# Altium footprint library IC_Broadcom_ACPL-C87A-000E_eec_IPC_B.PcbLib: 1 footprints
Each footprint in its own frame and in the unit in brackets; x right, y up, seen from the top. Pads: shape width x height; smd on the part's side, far side on the other; paste and mask are expansions set on the pad; w line width, h text height; cw(c..) or ccw(c..) is an arc to the next point about the centre after c.
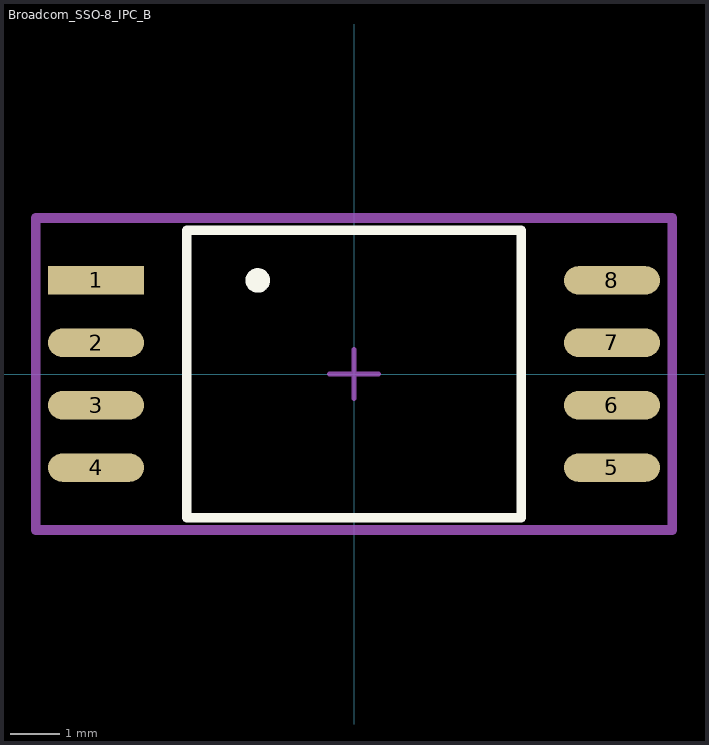
[diagram p0: the footprint, top view; thin cyan lines are the x and y axes]

## Broadcom_SSO-8_IPC_B [mil]
pads (8):
  rect 76.93x22.74 smd paste+0 mask+0: 1(-206.71,75)
  oval 76.93x22.74 smd paste+0 mask+0: 2(-206.71,25) 3(-206.71,-25) 4(-206.71,-75) 5(206.71,-75) 6(206.71,-25) 7(206.71,25) 8(206.71,75)
Top Overlay:
  circle w9.84: c-77.1,75 r4.92
  lines w7.87: -134,-115.16 134,-115.16 134,115.16 -134,115.16 -134,-115.16
Mechanical 10:
  lines w7.87: -255.02,-125 255.02,-125 255.02,125 -255.02,125 -255.02,-125
  text ".Designator" at 0,0 h39.37
Mechanical 12:
  lines w5.91: -134,-115.16 134,-115.16 134,115.16 -134,115.16 -134,-115.16
Mechanical 15:
  lines w3.94: -19.68,0 19.68,0 ; 0,-19.68 0,19.68
  lines w7.87: -255.02,-125 255.02,-125 255.02,125 -255.02,125 -255.02,-125
3D body "IC_Broadcom_ACPL-C87A-000E_eec.STEP": height 10, standoff 0, extent -255.02,-125 255.02,125